# Altium integrated library Capacitor - Aluminium TH.IntLib: 4591 symbols (part 61 of 68)
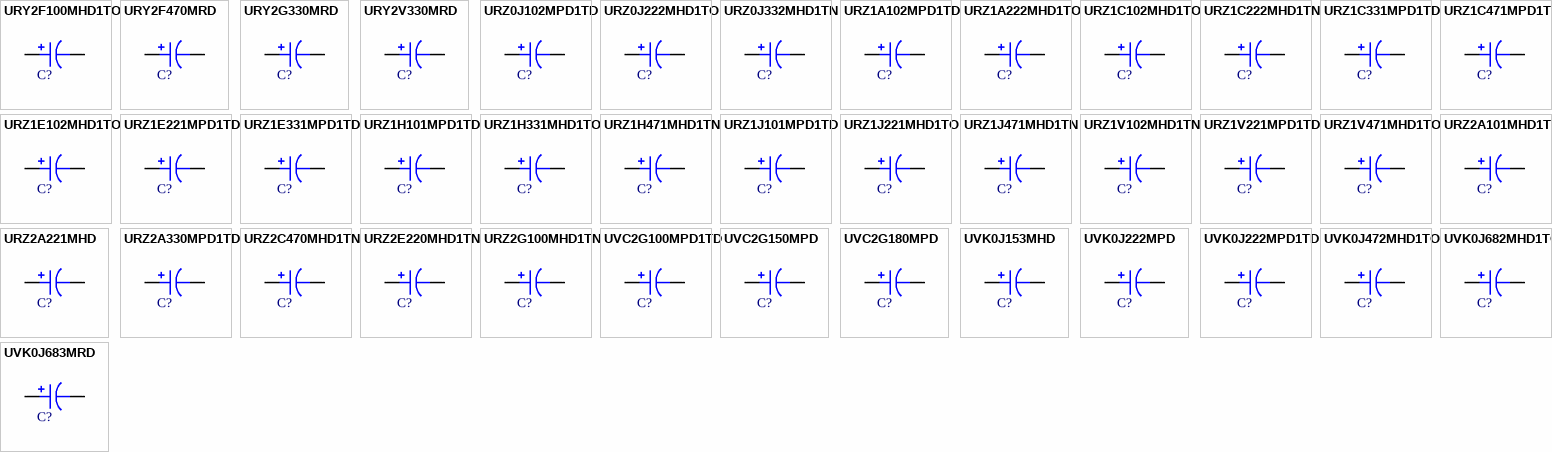
[diagram p174: symbols URY2F100MHD1TO to UVK0J683MRD]

## URZ1J101MPD1TD
designator C?, comment 100uF  (value not drawn)
CAP ALUM 100UF 20% 63V RADIAL; Part Number: URZ1J101MPD1TD; Manufacturer: Nichicon; TemperatureRange: -55C ~ 105C; Type: Polar; Ripple Current: 215mA @ 120Hz; Value: 100uF; PartId: 24445; Supplier 1: Digi-Key; Supplier Part Number 1: 493-11929-3-ND; ComponentLink1Description: Datasheet; ComponentLink1URL: http://nichicon-us.com/english/products/pdfs/e-urz.pdf; ComponentLink2Description: Digi-Key Listing; ComponentLink2URL: https://www.digikey.com/product-detail/en/nichicon/URZ1J101MPD1TD/493-11929-3-ND/4321072; Tolerance: 20%; Voltage: 63V; Price: 0.2068; Device Package: Radial, Can, 10mm
footprint CAP AL TH D10 L5 H12.5
pins: 1, 2

## URZ1J221MHD1TO
designator C?, comment 220uF  (value not drawn)
CAP ALUM 220UF 20% 63V RADIAL; Part Number: URZ1J221MHD1TO; Manufacturer: Nichicon; TemperatureRange: -55C ~ 105C; Type: Polar; Ripple Current: 335mA @ 120Hz; Value: 220uF; PartId: 22690; Supplier 1: Digi-Key; Supplier Part Number 1: 493-12084-1-ND; ComponentLink1Description: Datasheet; ComponentLink1URL: http://nichicon-us.com/english/products/pdfs/e-urz.pdf; ComponentLink2Description: Digi-Key Listing; ComponentLink2URL: https://www.digikey.com/product-detail/en/nichicon/URZ1J221MHD1TO/493-12084-1-ND/4320404; Tolerance: 20%; Voltage: 63V; Price: 0; Device Package: Radial, Can, 12.5mm
footprint CAP AL TH D12.5 L5 H14
pins: 1, 2

## URZ1J471MHD1TN
designator C?, comment 470uF  (value not drawn)
CAP ALUM 470UF 20% 63V RADIAL; Part Number: URZ1J471MHD1TN; Manufacturer: Nichicon; TemperatureRange: -55C ~ 105C; Type: Polar; Ripple Current: 640mA @ 120Hz; Value: 470uF; PartId: 26256; Supplier 1: Digi-Key; Supplier Part Number 1: 493-12282-3-ND; ComponentLink1Description: Datasheet; ComponentLink1URL: http://nichicon-us.com/english/products/pdfs/e-urz.pdf; ComponentLink2Description: Digi-Key Listing; ComponentLink2URL: https://www.digikey.com/product-detail/en/nichicon/URZ1J471MHD1TN/493-12282-3-ND/4321425; Tolerance: 20%; Voltage: 63V; Price: 0.6602; Device Package: Radial, Can, 16mm
footprint CAP AL TH D16 L7.5 H16.5
pins: 1, 2

## URZ1V102MHD1TN
designator C?, comment 1000uF  (value not drawn)
CAP ALUM 1000UF 20% 35V RADIAL; Part Number: URZ1V102MHD1TN; Manufacturer: Nichicon; TemperatureRange: -55C ~ 105C; Type: Polar; Ripple Current: 720mA @ 120Hz; Value: 1000uF; PartId: 26249; Supplier 1: Digi-Key; Supplier Part Number 1: 493-12172-3-ND; ComponentLink1Description: Datasheet; ComponentLink1URL: http://nichicon-us.com/english/products/pdfs/e-urz.pdf; ComponentLink2Description: Digi-Key Listing; ComponentLink2URL: https://www.digikey.com/product-detail/en/nichicon/URZ1V102MHD1TN/493-12172-3-ND/4321315; Tolerance: 20%; Voltage: 35V; Price: 0.5132; Device Package: Radial, Can, 16mm
footprint CAP AL TH D16 L7.5 H16.5
pins: 1, 2

## URZ1V221MPD1TD
designator C?, comment 220uF  (value not drawn)
CAP ALUM 220UF 20% 35V RADIAL; Part Number: URZ1V221MPD1TD; Manufacturer: Nichicon; TemperatureRange: -55C ~ 105C; Type: Polar; Ripple Current: 235mA @ 120Hz; Value: 220uF; PartId: 24444; Supplier 1: Digi-Key; Supplier Part Number 1: 493-11923-3-ND; ComponentLink1Description: Datasheet; ComponentLink1URL: http://nichicon-us.com/english/products/pdfs/e-urz.pdf; ComponentLink2Description: Digi-Key Listing; ComponentLink2URL: https://www.digikey.com/product-detail/en/nichicon/URZ1V221MPD1TD/493-11923-3-ND/4321066; Tolerance: 20%; Voltage: 35V; Price: 0.2042; Device Package: Radial, Can, 10mm
footprint CAP AL TH D10 L5 H12.5
pins: 1, 2

## URZ1V471MHD1TO
designator C?, comment 470uF  (value not drawn)
CAP ALUM 470UF 20% 35V RADIAL; Part Number: URZ1V471MHD1TO; Manufacturer: Nichicon; TemperatureRange: -55C ~ 105C; Type: Polar; Ripple Current: 420mA @ 120Hz; Value: 470uF; PartId: 22685; Supplier 1: Digi-Key; Supplier Part Number 1: 493-12005-1-ND; ComponentLink1Description: Datasheet; ComponentLink1URL: http://nichicon-us.com/english/products/pdfs/e-urz.pdf; ComponentLink2Description: Digi-Key Listing; ComponentLink2URL: https://www.digikey.com/product-detail/en/nichicon/URZ1V471MHD1TO/493-12005-1-ND/4320418; Tolerance: 20%; Voltage: 35V; Price: 0; Device Package: Radial, Can, 12.5mm
footprint CAP AL TH D12.5 L5 H14
pins: 1, 2

## URZ2A101MHD1TO
designator C?, comment 100uF  (value not drawn)
CAP ALUM 100UF 20% 100V RADIAL; Part Number: URZ2A101MHD1TO; Manufacturer: Nichicon; TemperatureRange: -55C ~ 105C; Type: Polar; Ripple Current: 265mA @ 120Hz; Value: 100uF; PartId: 22763; Supplier 1: Digi-Key; Supplier Part Number 1: 493-12157-1-ND; ComponentLink1Description: Datasheet; ComponentLink1URL: http://nichicon-us.com/english/products/pdfs/e-urz.pdf; ComponentLink2Description: Digi-Key Listing; ComponentLink2URL: https://www.digikey.com/product-detail/en/nichicon/URZ2A101MHD1TO/493-12157-1-ND/4320423; Tolerance: 20%; Voltage: 100V; Price: 0; Device Package: Radial, Can, 12.5mm
footprint CAP AL TH D12.5 L5 H16.5
pins: 1, 2

## URZ2A221MHD
designator C?, comment 220uF  (value not drawn)
CAP ALUM 220UF 20% 100V RADIAL; Part Number: URZ2A221MHD; Manufacturer: Nichicon; TemperatureRange: -55C ~ 105C; Type: Polar; Ripple Current: 440mA @ 120Hz; Value: 220uF; PartId: 26258; Supplier 1: Digi-Key; Supplier Part Number 1: 493-14509-ND; ComponentLink1Description: Datasheet; ComponentLink1URL: http://nichicon-us.com/english/products/pdfs/e-urz.pdf; ComponentLink2Description: Digi-Key Listing; ComponentLink2URL: https://www.digikey.com/product-detail/en/nichicon/URZ2A221MHD/493-14509-ND/2539005; Tolerance: 20%; Voltage: 100V; Price: 0.94; Device Package: Radial, Can, 16mm
footprint CAP AL TH D16 L7.5 H16.5
pins: 1, 2

## URZ2A330MPD1TD
designator C?, comment 33uF  (value not drawn)
CAP ALUM 33UF 20% 100V RADIAL; Part Number: URZ2A330MPD1TD; Manufacturer: Nichicon; TemperatureRange: -55C ~ 105C; Type: Polar; Ripple Current: 130mA @ 120Hz; Value: 33uF; PartId: 24443; Supplier 1: Digi-Key; Supplier Part Number 1: 493-11917-3-ND; ComponentLink1Description: Datasheet; ComponentLink1URL: http://nichicon-us.com/english/products/pdfs/e-urz.pdf; ComponentLink2Description: Digi-Key Listing; ComponentLink2URL: https://www.digikey.com/product-detail/en/nichicon/URZ2A330MPD1TD/493-11917-3-ND/4321060; Tolerance: 20%; Voltage: 100V; Price: 0.2014; Device Package: Radial, Can, 10mm
footprint CAP AL TH D10 L5 H12.5
pins: 1, 2

## URZ2C470MHD1TN
designator C?, comment 47uF  (value not drawn)
CAP ALUM 47UF 20% 160V RADIAL; Part Number: URZ2C470MHD1TN; Manufacturer: Nichicon; TemperatureRange: -40C ~ 105C; Type: Polar; Ripple Current: 300mA @ 120Hz; Value: 47uF; PartId: 26247; Supplier 1: Digi-Key; Supplier Part Number 1: 493-12184-3-ND; ComponentLink1Description: Datasheet; ComponentLink1URL: http://nichicon-us.com/english/products/pdfs/e-urz.pdf; ComponentLink2Description: Digi-Key Listing; ComponentLink2URL: https://www.digikey.com/product-detail/en/nichicon/URZ2C470MHD1TN/493-12184-3-ND/4321327; Tolerance: 20%; Voltage: 160V; Price: 0.5086; Device Package: Radial, Can, 16mm
footprint CAP AL TH D16 L7.5 H16.5
pins: 1, 2

## URZ2E220MHD1TN
designator C?, comment 22uF  (value not drawn)
CAP ALUM 22UF 20% 250V RADIAL; Part Number: URZ2E220MHD1TN; Manufacturer: Nichicon; TemperatureRange: -40C ~ 105C; Type: Polar; Ripple Current: 200mA @ 120Hz; Value: 22uF; PartId: 26240; Supplier 1: Digi-Key; Supplier Part Number 1: 493-12137-3-ND; ComponentLink1Description: Datasheet; ComponentLink1URL: http://nichicon-us.com/english/products/pdfs/e-urz.pdf; ComponentLink2Description: Digi-Key Listing; ComponentLink2URL: https://www.digikey.com/product-detail/en/nichicon/URZ2E220MHD1TN/493-12137-3-ND/4321280; Tolerance: 20%; Voltage: 250V; Price: 0.459; Device Package: Radial, Can, 16mm
footprint CAP AL TH D16 L7.5 H16.5
pins: 1, 2

## URZ2G100MHD1TN
designator C?, comment 10uF  (value not drawn)
CAP ALUM 10UF 20% 400V RADIAL; Part Number: URZ2G100MHD1TN; Manufacturer: Nichicon; TemperatureRange: -40C ~ 105C; Type: Polar; Ripple Current: 100mA @ 120Hz; Value: 10uF; PartId: 26251; Supplier 1: Digi-Key; Supplier Part Number 1: 493-12199-3-ND; ComponentLink1Description: Datasheet; ComponentLink1URL: http://nichicon-us.com/english/products/pdfs/e-urz.pdf; ComponentLink2Description: Digi-Key Listing; ComponentLink2URL: https://www.digikey.com/product-detail/en/nichicon/URZ2G100MHD1TN/493-12199-3-ND/4321342; Tolerance: 20%; Voltage: 400V; Price: 0.524; Device Package: Radial, Can, 16mm
footprint CAP AL TH D16 L7.5 H16.5
pins: 1, 2

## UVC2G100MPD1TD
designator C?, comment 10uF  (value not drawn)
CAP ALUM 10UF 20% 400V RADIAL; Part Number: UVC2G100MPD1TD; Manufacturer: Nichicon; TemperatureRange: -40C ~ 105C; Type: Polar; Ripple Current: 100mA; Value: 10uF; PartId: 24679; Supplier 1: Digi-Key; Supplier Part Number 1: 493-10416-3-ND; ComponentLink1Description: Datasheet; ComponentLink1URL: http://nichicon-us.com/english/products/pdfs/e-uvc.pdf; ComponentLink2Description: Digi-Key Listing; ComponentLink2URL: https://www.digikey.com/product-detail/en/nichicon/UVC2G100MPD1TD/493-10416-3-ND/4312415; Tolerance: 20%; Voltage: 400V; Price: 0.3216; Device Package: Radial, Can, 10mm
footprint CAP AL TH D10 L5 H14.5
pins: 1, 2

## UVC2G150MPD
designator C?, comment 15uF  (value not drawn)
CAP ALUM 15UF 20% 400V RADIAL; Part Number: UVC2G150MPD; Manufacturer: Nichicon; TemperatureRange: -40C ~ 105C; Type: Polar; Ripple Current: 150mA; Value: 15uF; PartId: 25699; Supplier 1: Digi-Key; Supplier Part Number 1: 493-6679-ND; ComponentLink1Description: Datasheet; ComponentLink1URL: http://nichicon-us.com/english/products/pdfs/e-uvc.pdf; ComponentLink2Description: Digi-Key Listing; ComponentLink2URL: https://www.digikey.com/product-detail/en/nichicon/UVC2G150MPD/493-6679-ND/3664224; Tolerance: 20%; Voltage: 400V; Price: 0.86; Device Package: Radial, Can, 10mm
footprint CAP AL TH D10 L5 H22
pins: 1, 2

## UVC2G180MPD
designator C?, comment 18uF  (value not drawn)
CAP ALUM 18UF 20% 400V RADIAL; Part Number: UVC2G180MPD; Manufacturer: Nichicon; TemperatureRange: -40C ~ 105C; Type: Polar; Ripple Current: 200mA; Value: 18uF; PartId: 25991; Supplier 1: Digi-Key; Supplier Part Number 1: 493-6680-ND; ComponentLink1Description: Datasheet; ComponentLink1URL: http://nichicon-us.com/english/products/pdfs/e-uvc.pdf; ComponentLink2Description: Digi-Key Listing; ComponentLink2URL: https://www.digikey.com/product-detail/en/nichicon/UVC2G180MPD/493-6680-ND/3664225; Tolerance: 20%; Voltage: 400V; Price: 1.03; Device Package: Radial, Can, 10mm
footprint CAP AL TH D10 L5 H22
pins: 1, 2

## UVK0J153MHD
designator C?, comment 15000uF  (value not drawn)
CAP ALUM 15000UF 20% 6.3V RADIAL; Part Number: UVK0J153MHD; Manufacturer: Nichicon; TemperatureRange: -40C ~ 85C; Type: Polar; Ripple Current: 2.55A; Value: 15000uF; PartId: 27138; Supplier 1: Digi-Key; Supplier Part Number 1: 493-12390-ND; ComponentLink1Description: Datasheet; ComponentLink1URL: http://nichicon-us.com/english/products/pdfs/e-uvk.pdf; ComponentLink2Description: Digi-Key Listing; ComponentLink2URL: https://www.digikey.com/product-detail/en/nichicon/UVK0J153MHD/493-12390-ND/2539355; Tolerance: 20%; Voltage: 6.3V; Price: 1.79; Device Package: Radial, Can, 16mm
footprint CAP AL TH D16 L7.5 H33.5
pins: 1, 2

## UVK0J222MPD
designator C?, comment 2200uF  (value not drawn)
CAP ALUM 2200UF 20% 6.3V RADIAL; Part Number: UVK0J222MPD; Manufacturer: Nichicon; TemperatureRange: -40C ~ 85C; Type: Polar; Ripple Current: 890mA; Value: 2200uF; PartId: 25231; Supplier 1: Digi-Key; Supplier Part Number 1: 493-6058-ND; ComponentLink1Description: Datasheet; ComponentLink1URL: http://nichicon-us.com/english/products/pdfs/e-uvk.pdf; ComponentLink2Description: Digi-Key Listing; ComponentLink2URL: https://www.digikey.com/product-detail/en/nichicon/UVK0J222MPD/493-6058-ND/2539356; Tolerance: 20%; Voltage: 6.3V; Price: 0.55; Device Package: Radial, Can, 10mm
footprint CAP AL TH D10 L5 H17.5
pins: 1, 2

## UVK0J222MPD1TD
designator C?, comment 2200uF  (value not drawn)
CAP ALUM 2200UF 20% 6.3V RADIAL; Part Number: UVK0J222MPD1TD; Manufacturer: Nichicon; TemperatureRange: -40C ~ 85C; Type: Polar; Ripple Current: 890mA; Value: 2200uF; PartId: 25042; Supplier 1: Digi-Key; Supplier Part Number 1: 493-5889-3-ND; ComponentLink1Description: Datasheet; ComponentLink1URL: http://nichicon-us.com/english/products/pdfs/e-uvk.pdf; ComponentLink2Description: Digi-Key Listing; ComponentLink2URL: https://www.digikey.com/product-detail/en/nichicon/UVK0J222MPD1TD/493-5889-3-ND/3438522; Tolerance: 20%; Voltage: 6.3V; Price: 0.1884; Device Package: Radial, Can, 10mm
footprint CAP AL TH D10 L5 H17.5
pins: 1, 2

## UVK0J472MHD1TO
designator C?, comment 4700uF  (value not drawn)
CAP ALUM 4700UF 20% 6.3V RADIAL; Part Number: UVK0J472MHD1TO; Manufacturer: Nichicon; TemperatureRange: -40C ~ 85C; Type: Polar; Ripple Current: 1.55A; Value: 4700uF; PartId: 23292; Supplier 1: Digi-Key; Supplier Part Number 1: 493-12544-1-ND; ComponentLink1Description: Datasheet; ComponentLink1URL: http://nichicon-us.com/english/products/pdfs/e-uvk.pdf; ComponentLink2Description: Digi-Key Listing; ComponentLink2URL: https://www.digikey.com/product-detail/en/nichicon/UVK0J472MHD1TO/493-12544-1-ND/4328625; Tolerance: 20%; Voltage: 6.3V; Price: 0.79; Device Package: Radial, Can, 12.5mm
footprint CAP AL TH D12.5 L5 H22
pins: 1, 2

## UVK0J682MHD1TO
designator C?, comment 6800uF  (value not drawn)
CAP ALUM 6800UF 20% 6.3V RADIAL; Part Number: UVK0J682MHD1TO; Manufacturer: Nichicon; TemperatureRange: -40C ~ 85C; Type: Polar; Ripple Current: 1.92A; Value: 6800uF; PartId: 24138; Supplier 1: Digi-Key; Supplier Part Number 1: 493-12545-1-ND; ComponentLink1Description: Datasheet; ComponentLink1URL: http://nichicon-us.com/english/products/pdfs/e-uvk.pdf; ComponentLink2Description: Digi-Key Listing; ComponentLink2URL: https://www.digikey.com/product-detail/en/nichicon/UVK0J682MHD1TO/493-12545-1-ND/4328626; Tolerance: 20%; Voltage: 6.3V; Price: 1.46; Device Package: Radial, Can, 12.5mm
footprint CAP AL TH D12.5 L5 H27
pins: 1, 2

## UVK0J683MRD
designator C?, comment 68000uF  (value not drawn)
CAP ALUM 68000UF 20% 6.3V RADIAL; Part Number: UVK0J683MRD; Manufacturer: Nichicon; TemperatureRange: -40C ~ 85C; Type: Polar; Ripple Current: 4.3A; Value: 68000uF; PartId: 27552; Supplier 1: Digi-Key; Supplier Part Number 1: 493-12394-ND; ComponentLink1Description: Datasheet; ComponentLink1URL: http://nichicon-us.com/english/products/pdfs/e-uvk.pdf; ComponentLink2Description: Digi-Key Listing; ComponentLink2URL: https://www.digikey.com/product-detail/en/nichicon/UVK0J683MRD/493-12394-ND/2539363; Tolerance: 20%; Voltage: 6.3V; Price: 4.62; Device Package: Radial, Can, 25mm
footprint CAP AL TH D25 L12.5 H52
pins: 1, 2

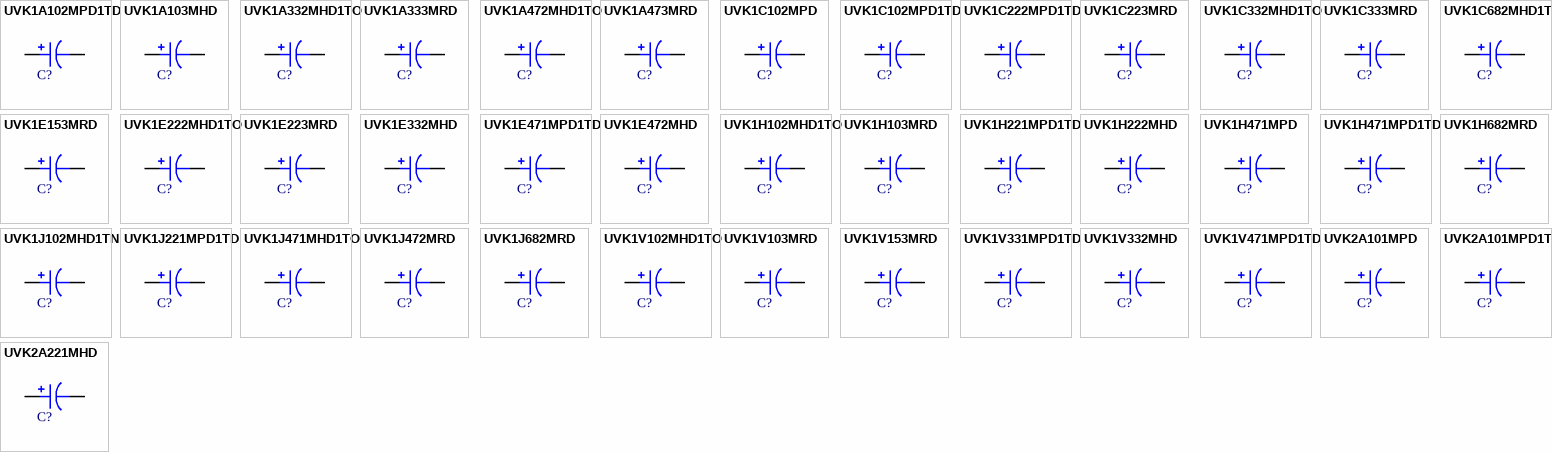
[diagram p102: symbols UVK1A102MPD1TD to UVK2A221MHD]

## UVK1A102MPD1TD
designator C?, comment 1000uF  (value not drawn)
CAP ALUM 1000UF 20% 10V RADIAL; Part Number: UVK1A102MPD1TD; Manufacturer: Nichicon; TemperatureRange: -40C ~ 85C; Type: Polar; Ripple Current: 650mA; Value: 1000uF; PartId: 24541; Supplier 1: Digi-Key; Supplier Part Number 1: 493-12546-3-ND; ComponentLink1Description: Datasheet; ComponentLink1URL: http://nichicon-us.com/english/products/pdfs/e-uvk.pdf; ComponentLink2Description: Digi-Key Listing; ComponentLink2URL: https://www.digikey.com/product-detail/en/nichicon/UVK1A102MPD1TD/493-12546-3-ND/4328747; Tolerance: 20%; Voltage: 10V; Price: 0.1473; Device Package: Radial, Can, 10mm
footprint CAP AL TH D10 L5 H14.5
pins: 1, 2

## UVK1A103MHD
designator C?, comment 10000uF  (value not drawn)
CAP ALUM 10000UF 20% 10V RADIAL; Part Number: UVK1A103MHD; Manufacturer: Nichicon; TemperatureRange: -40C ~ 85C; Type: Polar; Ripple Current: 2.55A; Value: 10000uF; PartId: 27135; Supplier 1: Digi-Key; Supplier Part Number 1: 493-12395-ND; ComponentLink1Description: Datasheet; ComponentLink1URL: http://nichicon-us.com/english/products/pdfs/e-uvk.pdf; ComponentLink2Description: Digi-Key Listing; ComponentLink2URL: https://www.digikey.com/product-detail/en/nichicon/UVK1A103MHD/493-12395-ND/2539365; Tolerance: 20%; Voltage: 10V; Price: 1.79; Device Package: Radial, Can, 16mm
footprint CAP AL TH D16 L7.5 H33.5
pins: 1, 2

## UVK1A332MHD1TO
designator C?, comment 3300uF  (value not drawn)
CAP ALUM 3300UF 20% 10V RADIAL; Part Number: UVK1A332MHD1TO; Manufacturer: Nichicon; TemperatureRange: -40C ~ 85C; Type: Polar; Ripple Current: 1.45A; Value: 3300uF; PartId: 23306; Supplier 1: Digi-Key; Supplier Part Number 1: 493-12549-1-ND; ComponentLink1Description: Datasheet; ComponentLink1URL: http://nichicon-us.com/english/products/pdfs/e-uvk.pdf; ComponentLink2Description: Digi-Key Listing; ComponentLink2URL: https://www.digikey.com/product-detail/en/nichicon/UVK1A332MHD1TO/493-12549-1-ND/4328630; Tolerance: 20%; Voltage: 10V; Price: 0.81; Device Package: Radial, Can, 12.5mm
footprint CAP AL TH D12.5 L5 H22
pins: 1, 2

## UVK1A333MRD
designator C?, comment 33000uF  (value not drawn)
CAP ALUM 33000UF 20% 10V RADIAL; Part Number: UVK1A333MRD; Manufacturer: Nichicon; TemperatureRange: -40C ~ 85C; Type: Polar; Ripple Current: 4.5A; Value: 33000uF; PartId: 27643; Supplier 1: Digi-Key; Supplier Part Number 1: 493-12398-ND; ComponentLink1Description: Datasheet; ComponentLink1URL: http://nichicon-us.com/english/products/pdfs/e-uvk.pdf; ComponentLink2Description: Digi-Key Listing; ComponentLink2URL: https://www.digikey.com/product-detail/en/nichicon/UVK1A333MRD/493-12398-ND/2539372; Tolerance: 20%; Voltage: 10V; Price: 4.13; Device Package: Radial, Can, 22mm
footprint CAP AL TH D22 L10 H53
pins: 1, 2

## UVK1A472MHD1TO
designator C?, comment 4700uF  (value not drawn)
CAP ALUM 4700UF 20% 10V RADIAL; Part Number: UVK1A472MHD1TO; Manufacturer: Nichicon; TemperatureRange: -40C ~ 85C; Type: Polar; Ripple Current: 1.8A; Value: 4700uF; PartId: 24094; Supplier 1: Digi-Key; Supplier Part Number 1: 493-12551-1-ND; ComponentLink1Description: Datasheet; ComponentLink1URL: http://nichicon-us.com/english/products/pdfs/e-uvk.pdf; ComponentLink2Description: Digi-Key Listing; ComponentLink2URL: https://www.digikey.com/product-detail/en/nichicon/UVK1A472MHD1TO/493-12551-1-ND/4328632; Tolerance: 20%; Voltage: 10V; Price: 1.28; Device Package: Radial, Can, 12.5mm
footprint CAP AL TH D12.5 L5 H27
pins: 1, 2

## UVK1A473MRD
designator C?, comment 47000uF  (value not drawn)
CAP ALUM 47000UF 20% 10V RADIAL; Part Number: UVK1A473MRD; Manufacturer: Nichicon; TemperatureRange: -40C ~ 85C; Type: Polar; Ripple Current: 5A; Value: 47000uF; PartId: 27543; Supplier 1: Digi-Key; Supplier Part Number 1: 493-12399-ND; ComponentLink1Description: Datasheet; ComponentLink1URL: http://nichicon-us.com/english/products/pdfs/e-uvk.pdf; ComponentLink2Description: Digi-Key Listing; ComponentLink2URL: https://www.digikey.com/product-detail/en/nichicon/UVK1A473MRD/493-12399-ND/2539375; Tolerance: 20%; Voltage: 10V; Price: 4.14; Device Package: Radial, Can, 25mm
footprint CAP AL TH D25 L12.5 H52
pins: 1, 2

## UVK1C102MPD
designator C?, comment 1000uF  (value not drawn)
CAP ALUM 1000UF 20% 16V RADIAL; Part Number: UVK1C102MPD; Manufacturer: Nichicon; TemperatureRange: -40C ~ 85C; Type: Polar; Ripple Current: 700mA; Value: 1000uF; PartId: 24903; Supplier 1: Digi-Key; Supplier Part Number 1: 493-13408-ND; ComponentLink1Description: Datasheet; ComponentLink1URL: http://nichicon-us.com/english/products/pdfs/e-uvk.pdf; ComponentLink2Description: Digi-Key Listing; ComponentLink2URL: https://www.digikey.com/product-detail/en/nichicon/UVK1C102MPD/493-13408-ND/2539377; Tolerance: 20%; Voltage: 16V; Price: 0.49; Device Package: Radial, Can, 10mm
footprint CAP AL TH D10 L5 H14.5
pins: 1, 2

## UVK1C102MPD1TD
designator C?, comment 1000uF  (value not drawn)
CAP ALUM 1000UF 20% 16V RADIAL; Part Number: UVK1C102MPD1TD; Manufacturer: Nichicon; TemperatureRange: -40C ~ 85C; Type: Polar; Ripple Current: 700mA; Value: 1000uF; PartId: 24584; Supplier 1: Digi-Key; Supplier Part Number 1: 493-12553-3-ND; ComponentLink1Description: Datasheet; ComponentLink1URL: http://nichicon-us.com/english/products/pdfs/e-uvk.pdf; ComponentLink2Description: Digi-Key Listing; ComponentLink2URL: https://www.digikey.com/product-detail/en/nichicon/UVK1C102MPD1TD/493-12553-3-ND/4328754; Tolerance: 20%; Voltage: 16V; Price: 0.1682; Device Package: Radial, Can, 10mm
footprint CAP AL TH D10 L5 H14.5
pins: 1, 2

## UVK1C222MPD1TD
designator C?, comment 2200uF  (value not drawn)
CAP ALUM 2200UF 20% 16V RADIAL; Part Number: UVK1C222MPD1TD; Manufacturer: Nichicon; TemperatureRange: -40C ~ 85C; Type: Polar; Ripple Current: 1A; Value: 2200uF; PartId: 25783; Supplier 1: Digi-Key; Supplier Part Number 1: 493-12555-3-ND; ComponentLink1Description: Datasheet; ComponentLink1URL: http://nichicon-us.com/english/products/pdfs/e-uvk.pdf; ComponentLink2Description: Digi-Key Listing; ComponentLink2URL: https://www.digikey.com/product-detail/en/nichicon/UVK1C222MPD1TD/493-12555-3-ND/4328756; Tolerance: 20%; Voltage: 16V; Price: 0.254; Device Package: Radial, Can, 10mm
footprint CAP AL TH D10 L5 H22
pins: 1, 2

## UVK1C223MRD
designator C?, comment 22000uF  (value not drawn)
CAP ALUM 22000UF 20% 16V RADIAL; Part Number: UVK1C223MRD; Manufacturer: Nichicon; TemperatureRange: -40C ~ 85C; Type: Polar; Ripple Current: 3.8A; Value: 22000uF; PartId: 27577; Supplier 1: Digi-Key; Supplier Part Number 1: 493-12402-ND; ComponentLink1Description: Datasheet; ComponentLink1URL: http://nichicon-us.com/english/products/pdfs/e-uvk.pdf; ComponentLink2Description: Digi-Key Listing; ComponentLink2URL: https://www.digikey.com/product-detail/en/nichicon/UVK1C223MRD/493-12402-ND/2539382; Tolerance: 20%; Voltage: 16V; Price: 4.13; Device Package: Radial, Can, 22mm
footprint CAP AL TH D22 L10 H43
pins: 1, 2

## UVK1C332MHD1TO
designator C?, comment 3300uF  (value not drawn)
CAP ALUM 3300UF 20% 16V RADIAL; Part Number: UVK1C332MHD1TO; Manufacturer: Nichicon; TemperatureRange: -40C ~ 85C; Type: Polar; Ripple Current: 1.7A; Value: 3300uF; PartId: 24119; Supplier 1: Digi-Key; Supplier Part Number 1: 493-12557-1-ND; ComponentLink1Description: Datasheet; ComponentLink1URL: http://nichicon-us.com/english/products/pdfs/e-uvk.pdf; ComponentLink2Description: Digi-Key Listing; ComponentLink2URL: https://www.digikey.com/product-detail/en/nichicon/UVK1C332MHD1TO/493-12557-1-ND/4328638; Tolerance: 20%; Voltage: 16V; Price: 1.4; Device Package: Radial, Can, 12.5mm
footprint CAP AL TH D12.5 L5 H27
pins: 1, 2

## UVK1C333MRD
designator C?, comment 33000uF  (value not drawn)
CAP ALUM 33000UF 20% 16V RADIAL; Part Number: UVK1C333MRD; Manufacturer: Nichicon; TemperatureRange: -40C ~ 85C; Type: Polar; Ripple Current: 4.8A; Value: 33000uF; PartId: 27534; Supplier 1: Digi-Key; Supplier Part Number 1: 493-12403-ND; ComponentLink1Description: Datasheet; ComponentLink1URL: http://nichicon-us.com/english/products/pdfs/e-uvk.pdf; ComponentLink2Description: Digi-Key Listing; ComponentLink2URL: https://www.digikey.com/product-detail/en/nichicon/UVK1C333MRD/493-12403-ND/2539385; Tolerance: 20%; Voltage: 16V; Price: 4.62; Device Package: Radial, Can, 25mm
footprint CAP AL TH D25 L12.5 H52
pins: 1, 2

## UVK1C682MHD1TN
designator C?, comment 6800uF  (value not drawn)
CAP ALUM 6800UF 20% 16V RADIAL; Part Number: UVK1C682MHD1TN; Manufacturer: Nichicon; TemperatureRange: -40C ~ 85C; Type: Polar; Ripple Current: 2.25A; Value: 6800uF; PartId: 26779; Supplier 1: Digi-Key; Supplier Part Number 1: 493-7456-2-ND; ComponentLink1Description: Datasheet; ComponentLink1URL: http://nichicon-us.com/english/products/pdfs/e-uvk.pdf; ComponentLink2Description: Digi-Key Listing; ComponentLink2URL: https://www.digikey.com/product-detail/en/nichicon/UVK1C682MHD1TN/493-7456-2-ND/3768854; Tolerance: 20%; Voltage: 16V; Price: 0.641; Device Package: Radial, Can, 16mm
footprint CAP AL TH D16 L7.5 H27
pins: 1, 2

## UVK1E153MRD
designator C?, comment 15000uF  (value not drawn)
CAP ALUM 15000UF 20% 25V RADIAL; Part Number: UVK1E153MRD; Manufacturer: Nichicon; TemperatureRange: -40C ~ 85C; Type: Polar; Ripple Current: 3.8A; Value: 15000uF; PartId: 27642; Supplier 1: Digi-Key; Supplier Part Number 1: 493-12404-ND; ComponentLink1Description: Datasheet; ComponentLink1URL: http://nichicon-us.com/english/products/pdfs/e-uvk.pdf; ComponentLink2Description: Digi-Key Listing; ComponentLink2URL: https://www.digikey.com/product-detail/en/nichicon/UVK1E153MRD/493-12404-ND/2539391; Tolerance: 20%; Voltage: 25V; Price: 4.13; Device Package: Radial, Can, 22mm
footprint CAP AL TH D22 L10 H53
pins: 1, 2

## UVK1E222MHD1TO
designator C?, comment 2200uF  (value not drawn)
CAP ALUM 2200UF 20% 25V RADIAL; Part Number: UVK1E222MHD1TO; Manufacturer: Nichicon; TemperatureRange: -40C ~ 85C; Type: Polar; Ripple Current: 1.55A; Value: 2200uF; PartId: 23845; Supplier 1: Digi-Key; Supplier Part Number 1: 493-12563-3-ND; ComponentLink1Description: Datasheet; ComponentLink1URL: http://nichicon-us.com/english/products/pdfs/e-uvk.pdf; ComponentLink2Description: Digi-Key Listing; ComponentLink2URL: https://www.digikey.com/product-detail/en/nichicon/UVK1E222MHD1TO/493-12563-3-ND/4328764; Tolerance: 20%; Voltage: 25V; Price: 0.5577; Device Package: Radial, Can, 12.5mm
footprint CAP AL TH D12.5 L5 H27
pins: 1, 2

## UVK1E223MRD
designator C?, comment 22000uF  (value not drawn)
CAP ALUM 22000UF 20% 25V RADIAL; Part Number: UVK1E223MRD; Manufacturer: Nichicon; TemperatureRange: -40C ~ 85C; Type: Polar; Ripple Current: 4.5A; Value: 22000uF; PartId: 27532; Supplier 1: Digi-Key; Supplier Part Number 1: 493-12405-ND; ComponentLink1Description: Datasheet; ComponentLink1URL: http://nichicon-us.com/english/products/pdfs/e-uvk.pdf; ComponentLink2Description: Digi-Key Listing; ComponentLink2URL: https://www.digikey.com/product-detail/en/nichicon/UVK1E223MRD/493-12405-ND/2539394; Tolerance: 20%; Voltage: 25V; Price: 4.62; Device Package: Radial, Can, 25mm
footprint CAP AL TH D25 L12.5 H52
pins: 1, 2

## UVK1E332MHD
designator C?, comment 3300uF  (value not drawn)
CAP ALUM 3300UF 20% 25V RADIAL; Part Number: UVK1E332MHD; Manufacturer: Nichicon; TemperatureRange: -40C ~ 85C; Type: Polar; Ripple Current: 1.98A; Value: 3300uF; PartId: 26831; Supplier 1: Digi-Key; Supplier Part Number 1: 493-6060-ND; ComponentLink1Description: Datasheet; ComponentLink1URL: http://nichicon-us.com/english/products/pdfs/e-uvk.pdf; ComponentLink2Description: Digi-Key Listing; ComponentLink2URL: https://www.digikey.com/product-detail/en/nichicon/UVK1E332MHD/493-6060-ND/2539396; Tolerance: 20%; Voltage: 25V; Price: 0.98; Device Package: Radial, Can, 16mm
footprint CAP AL TH D16 L7.5 H27
pins: 1, 2

## UVK1E471MPD1TD
designator C?, comment 470uF  (value not drawn)
CAP ALUM 470UF 20% 25V RADIAL; Part Number: UVK1E471MPD1TD; Manufacturer: Nichicon; TemperatureRange: -40C ~ 85C; Type: Polar; Ripple Current: 550mA; Value: 470uF; PartId: 24557; Supplier 1: Digi-Key; Supplier Part Number 1: 493-12565-3-ND; ComponentLink1Description: Datasheet; ComponentLink1URL: http://nichicon-us.com/english/products/pdfs/e-uvk.pdf; ComponentLink2Description: Digi-Key Listing; ComponentLink2URL: https://www.digikey.com/product-detail/en/nichicon/UVK1E471MPD1TD/493-12565-3-ND/4328766; Tolerance: 20%; Voltage: 25V; Price: 0.1518; Device Package: Radial, Can, 10mm
footprint CAP AL TH D10 L5 H14.5
pins: 1, 2

## UVK1E472MHD
designator C?, comment 4700uF  (value not drawn)
CAP ALUM 4700UF 20% 25V RADIAL; Part Number: UVK1E472MHD; Manufacturer: Nichicon; TemperatureRange: -40C ~ 85C; Type: Polar; Ripple Current: 2.2A; Value: 4700uF; PartId: 26879; Supplier 1: Digi-Key; Supplier Part Number 1: 493-16219-ND; ComponentLink1Description: Datasheet; ComponentLink1URL: http://nichicon-us.com/english/products/pdfs/e-uvk.pdf; ComponentLink2Description: Digi-Key Listing; ComponentLink2URL: https://www.digikey.com/product-detail/en/nichicon/UVK1E472MHD/493-16219-ND/2539398; Tolerance: 20%; Voltage: 25V; Price: 1.3; Device Package: Radial, Can, 16mm
footprint CAP AL TH D16 L7.5 H27
pins: 1, 2

## UVK1H102MHD1TO
designator C?, comment 1000uF  (value not drawn)
CAP ALUM 1000UF 20% 50V RADIAL; Part Number: UVK1H102MHD1TO; Manufacturer: Nichicon; TemperatureRange: -40C ~ 85C; Type: Polar; Ripple Current: 1.35A; Value: 1000uF; PartId: 23831; Supplier 1: Digi-Key; Supplier Part Number 1: 493-12571-3-ND; ComponentLink1Description: Datasheet; ComponentLink1URL: http://nichicon-us.com/english/products/pdfs/e-uvk.pdf; ComponentLink2Description: Digi-Key Listing; ComponentLink2URL: https://www.digikey.com/product-detail/en/nichicon/UVK1H102MHD1TO/493-12571-3-ND/4328772; Tolerance: 20%; Voltage: 50V; Price: 0.4617; Device Package: Radial, Can, 12.5mm
footprint CAP AL TH D12.5 L5 H27
pins: 1, 2

## UVK1H103MRD
designator C?, comment 10000uF  (value not drawn)
CAP ALUM 10000UF 20% 50V RADIAL; Part Number: UVK1H103MRD; Manufacturer: Nichicon; TemperatureRange: -40C ~ 85C; Type: Polar; Ripple Current: 4A; Value: 10000uF; PartId: 27553; Supplier 1: Digi-Key; Supplier Part Number 1: 493-12407-ND; ComponentLink1Description: Datasheet; ComponentLink1URL: http://nichicon-us.com/english/products/pdfs/e-uvk.pdf; ComponentLink2Description: Digi-Key Listing; ComponentLink2URL: https://www.digikey.com/product-detail/en/nichicon/UVK1H103MRD/493-12407-ND/2539405; Tolerance: 20%; Voltage: 50V; Price: 4.62; Device Package: Radial, Can, 25mm
footprint CAP AL TH D25 L12.5 H52
pins: 1, 2

## UVK1H221MPD1TD
designator C?, comment 220uF  (value not drawn)
CAP ALUM 220UF 20% 50V RADIAL; Part Number: UVK1H221MPD1TD; Manufacturer: Nichicon; TemperatureRange: -40C ~ 85C; Type: Polar; Ripple Current: 430mA; Value: 220uF; PartId: 24532; Supplier 1: Digi-Key; Supplier Part Number 1: 493-12573-3-ND; ComponentLink1Description: Datasheet; ComponentLink1URL: http://nichicon-us.com/english/products/pdfs/e-uvk.pdf; ComponentLink2Description: Digi-Key Listing; ComponentLink2URL: https://www.digikey.com/product-detail/en/nichicon/UVK1H221MPD1TD/493-12573-3-ND/4328774; Tolerance: 20%; Voltage: 50V; Price: 0.1442; Device Package: Radial, Can, 10mm
footprint CAP AL TH D10 L5 H14.5
pins: 1, 2

## UVK1H222MHD
designator C?, comment 2200uF  (value not drawn)
CAP ALUM 2200UF 20% 50V RADIAL; Part Number: UVK1H222MHD; Manufacturer: Nichicon; TemperatureRange: -40C ~ 85C; Type: Polar; Ripple Current: 1.98A; Value: 2200uF; PartId: 27133; Supplier 1: Digi-Key; Supplier Part Number 1: 493-6061-ND; ComponentLink1Description: Datasheet; ComponentLink1URL: http://nichicon-us.com/english/products/pdfs/e-uvk.pdf; ComponentLink2Description: Digi-Key Listing; ComponentLink2URL: https://www.digikey.com/product-detail/en/nichicon/UVK1H222MHD/493-6061-ND/2539407; Tolerance: 20%; Voltage: 50V; Price: 1.79; Device Package: Radial, Can, 16mm
footprint CAP AL TH D16 L7.5 H33.5
pins: 1, 2

## UVK1H471MPD
designator C?, comment 470uF  (value not drawn)
CAP ALUM 470UF 20% 50V RADIAL; Part Number: UVK1H471MPD; Manufacturer: Nichicon; TemperatureRange: -40C ~ 85C; Type: Polar; Ripple Current: 760mA; Value: 470uF; PartId: 25927; Supplier 1: Digi-Key; Supplier Part Number 1: 493-6062-ND; ComponentLink1Description: Datasheet; ComponentLink1URL: http://nichicon-us.com/english/products/pdfs/e-uvk.pdf; ComponentLink2Description: Digi-Key Listing; ComponentLink2URL: https://www.digikey.com/product-detail/en/nichicon/UVK1H471MPD/493-6062-ND/2539414; Tolerance: 20%; Voltage: 50V; Price: 0.73; Device Package: Radial, Can, 10mm
footprint CAP AL TH D10 L5 H22
pins: 1, 2

## UVK1H471MPD1TD
designator C?, comment 470uF  (value not drawn)
CAP ALUM 470UF 20% 50V RADIAL; Part Number: UVK1H471MPD1TD; Manufacturer: Nichicon; TemperatureRange: -40C ~ 85C; Type: Polar; Ripple Current: 760mA; Value: 470uF; PartId: 25782; Supplier 1: Digi-Key; Supplier Part Number 1: 493-5892-3-ND; ComponentLink1Description: Datasheet; ComponentLink1URL: http://nichicon-us.com/english/products/pdfs/e-uvk.pdf; ComponentLink2Description: Digi-Key Listing; ComponentLink2URL: https://www.digikey.com/product-detail/en/nichicon/UVK1H471MPD1TD/493-5892-3-ND/3438525; Tolerance: 20%; Voltage: 50V; Price: 0.2504; Device Package: Radial, Can, 10mm
footprint CAP AL TH D10 L5 H22
pins: 1, 2

## UVK1H682MRD
designator C?, comment 6800uF  (value not drawn)
CAP ALUM 6800UF 20% 50V RADIAL; Part Number: UVK1H682MRD; Manufacturer: Nichicon; TemperatureRange: -40C ~ 85C; Type: Polar; Ripple Current: 3.5A; Value: 6800uF; PartId: 27657; Supplier 1: Digi-Key; Supplier Part Number 1: 493-12410-ND; ComponentLink1Description: Datasheet; ComponentLink1URL: http://nichicon-us.com/english/products/pdfs/e-uvk.pdf; ComponentLink2Description: Digi-Key Listing; ComponentLink2URL: https://www.digikey.com/product-detail/en/nichicon/UVK1H682MRD/493-12410-ND/2539417; Tolerance: 20%; Voltage: 50V; Price: 4.44; Device Package: Radial, Can, 22mm
footprint CAP AL TH D22 L10 H53
pins: 1, 2

## UVK1J102MHD1TN
designator C?, comment 1000uF  (value not drawn)
CAP ALUM 1000UF 20% 63V RADIAL; Part Number: UVK1J102MHD1TN; Manufacturer: Nichicon; TemperatureRange: -40C ~ 85C; Type: Polar; Ripple Current: 1.3A; Value: 1000uF; PartId: 26754; Supplier 1: Digi-Key; Supplier Part Number 1: 493-12585-3-ND; ComponentLink1Description: Datasheet; ComponentLink1URL: http://nichicon-us.com/english/products/pdfs/e-uvk.pdf; ComponentLink2Description: Digi-Key Listing; ComponentLink2URL: https://www.digikey.com/product-detail/en/nichicon/UVK1J102MHD1TN/493-12585-3-ND/4328786; Tolerance: 20%; Voltage: 63V; Price: 0.5642; Device Package: Radial, Can, 16mm
footprint CAP AL TH D16 L7.5 H27
pins: 1, 2

## UVK1J221MPD1TD
designator C?, comment 220uF  (value not drawn)
CAP ALUM 220UF 20% 63V RADIAL; Part Number: UVK1J221MPD1TD; Manufacturer: Nichicon; TemperatureRange: -40C ~ 85C; Type: Polar; Ripple Current: 490mA; Value: 220uF; PartId: 25022; Supplier 1: Digi-Key; Supplier Part Number 1: 493-12587-3-ND; ComponentLink1Description: Datasheet; ComponentLink1URL: http://nichicon-us.com/english/products/pdfs/e-uvk.pdf; ComponentLink2Description: Digi-Key Listing; ComponentLink2URL: https://www.digikey.com/product-detail/en/nichicon/UVK1J221MPD1TD/493-12587-3-ND/4328788; Tolerance: 20%; Voltage: 63V; Price: 0.1664; Device Package: Radial, Can, 10mm
footprint CAP AL TH D10 L5 H17.5
pins: 1, 2

## UVK1J471MHD1TO
designator C?, comment 470uF  (value not drawn)
CAP ALUM 470UF 20% 63V RADIAL; Part Number: UVK1J471MHD1TO; Manufacturer: Nichicon; TemperatureRange: -40C ~ 85C; Type: Polar; Ripple Current: 900mA; Value: 470uF; PartId: 23786; Supplier 1: Digi-Key; Supplier Part Number 1: 493-12591-3-ND; ComponentLink1Description: Datasheet; ComponentLink1URL: http://nichicon-us.com/english/products/pdfs/e-uvk.pdf; ComponentLink2Description: Digi-Key Listing; ComponentLink2URL: https://www.digikey.com/product-detail/en/nichicon/UVK1J471MHD1TO/493-12591-3-ND/4328792; Tolerance: 20%; Voltage: 63V; Price: 0.2876; Device Package: Radial, Can, 12.5mm
footprint CAP AL TH D12.5 L5 H27
pins: 1, 2

## UVK1J472MRD
designator C?, comment 4700uF  (value not drawn)
CAP ALUM 4700UF 20% 63V RADIAL; Part Number: UVK1J472MRD; Manufacturer: Nichicon; TemperatureRange: -40C ~ 85C; Type: Polar; Ripple Current: 3.4A; Value: 4700uF; PartId: 27673; Supplier 1: Digi-Key; Supplier Part Number 1: 493-12413-ND; ComponentLink1Description: Datasheet; ComponentLink1URL: http://nichicon-us.com/english/products/pdfs/e-uvk.pdf; ComponentLink2Description: Digi-Key Listing; ComponentLink2URL: https://www.digikey.com/product-detail/en/nichicon/UVK1J472MRD/493-12413-ND/2539431; Tolerance: 20%; Voltage: 63V; Price: 4.09; Device Package: Radial, Can, 22mm
footprint CAP AL TH D22 L10 H53
pins: 1, 2

## UVK1J682MRD
designator C?, comment 6800uF  (value not drawn)
CAP ALUM 6800UF 20% 63V RADIAL; Part Number: UVK1J682MRD; Manufacturer: Nichicon; TemperatureRange: -40C ~ 85C; Type: Polar; Ripple Current: 3.9A; Value: 6800uF; PartId: 27521; Supplier 1: Digi-Key; Supplier Part Number 1: 493-12414-ND; ComponentLink1Description: Datasheet; ComponentLink1URL: http://nichicon-us.com/english/products/pdfs/e-uvk.pdf; ComponentLink2Description: Digi-Key Listing; ComponentLink2URL: https://www.digikey.com/product-detail/en/nichicon/UVK1J682MRD/493-12414-ND/2539433; Tolerance: 20%; Voltage: 63V; Price: 4.69; Device Package: Radial, Can, 25mm
footprint CAP AL TH D25 L12.5 H52
pins: 1, 2

## UVK1V102MHD1TO
designator C?, comment 1000uF  (value not drawn)
CAP ALUM 1000UF 20% 35V RADIAL; Part Number: UVK1V102MHD1TO; Manufacturer: Nichicon; TemperatureRange: -40C ~ 85C; Type: Polar; Ripple Current: 1.15A; Value: 1000uF; PartId: 23134; Supplier 1: Digi-Key; Supplier Part Number 1: 493-12594-3-ND; ComponentLink1Description: Datasheet; ComponentLink1URL: http://nichicon-us.com/english/products/pdfs/e-uvk.pdf; ComponentLink2Description: Digi-Key Listing; ComponentLink2URL: https://www.digikey.com/product-detail/en/nichicon/UVK1V102MHD1TO/493-12594-3-ND/4328795; Tolerance: 20%; Voltage: 35V; Price: 0.2496; Device Package: Radial, Can, 12.5mm
footprint CAP AL TH D12.5 L5 H22
pins: 1, 2

## UVK1V103MRD
designator C?, comment 10000uF  (value not drawn)
CAP ALUM 10000UF 20% 35V RADIAL; Part Number: UVK1V103MRD; Manufacturer: Nichicon; TemperatureRange: -40C ~ 85C; Type: Polar; Ripple Current: 3.7A; Value: 10000uF; PartId: 27644; Supplier 1: Digi-Key; Supplier Part Number 1: 493-12415-ND; ComponentLink1Description: Datasheet; ComponentLink1URL: http://nichicon-us.com/english/products/pdfs/e-uvk.pdf; ComponentLink2Description: Digi-Key Listing; ComponentLink2URL: https://www.digikey.com/product-detail/en/nichicon/UVK1V103MRD/493-12415-ND/2539436; Tolerance: 20%; Voltage: 35V; Price: 4.13; Device Package: Radial, Can, 22mm
footprint CAP AL TH D22 L10 H53
pins: 1, 2

## UVK1V153MRD
designator C?, comment 15000uF  (value not drawn)
CAP ALUM 15000UF 20% 35V RADIAL; Part Number: UVK1V153MRD; Manufacturer: Nichicon; TemperatureRange: -40C ~ 85C; Type: Polar; Ripple Current: 4.3A; Value: 15000uF; PartId: 27533; Supplier 1: Digi-Key; Supplier Part Number 1: 493-12416-ND; ComponentLink1Description: Datasheet; ComponentLink1URL: http://nichicon-us.com/english/products/pdfs/e-uvk.pdf; ComponentLink2Description: Digi-Key Listing; ComponentLink2URL: https://www.digikey.com/product-detail/en/nichicon/UVK1V153MRD/493-12416-ND/2539437; Tolerance: 20%; Voltage: 35V; Price: 4.62; Device Package: Radial, Can, 25mm
footprint CAP AL TH D25 L12.5 H52
pins: 1, 2

## UVK1V331MPD1TD
designator C?, comment 330uF  (value not drawn)
CAP ALUM 330UF 20% 35V RADIAL; Part Number: UVK1V331MPD1TD; Manufacturer: Nichicon; TemperatureRange: -40C ~ 85C; Type: Polar; Ripple Current: 490mA; Value: 330uF; PartId: 24518; Supplier 1: Digi-Key; Supplier Part Number 1: 493-12596-3-ND; ComponentLink1Description: Datasheet; ComponentLink1URL: http://nichicon-us.com/english/products/pdfs/e-uvk.pdf; ComponentLink2Description: Digi-Key Listing; ComponentLink2URL: https://www.digikey.com/product-detail/en/nichicon/UVK1V331MPD1TD/493-12596-3-ND/4328797; Tolerance: 20%; Voltage: 35V; Price: 0.1332; Device Package: Radial, Can, 10mm
footprint CAP AL TH D10 L5 H14.5
pins: 1, 2

## UVK1V332MHD
designator C?, comment 3300uF  (value not drawn)
CAP ALUM 3300UF 20% 35V RADIAL; Part Number: UVK1V332MHD; Manufacturer: Nichicon; TemperatureRange: -40C ~ 85C; Type: Polar; Ripple Current: 2.1A; Value: 3300uF; PartId: 27137; Supplier 1: Digi-Key; Supplier Part Number 1: 493-6065-ND; ComponentLink1Description: Datasheet; ComponentLink1URL: http://nichicon-us.com/english/products/pdfs/e-uvk.pdf; ComponentLink2Description: Digi-Key Listing; ComponentLink2URL: https://www.digikey.com/product-detail/en/nichicon/UVK1V332MHD/493-6065-ND/2539441; Tolerance: 20%; Voltage: 35V; Price: 1.79; Device Package: Radial, Can, 16mm
footprint CAP AL TH D16 L7.5 H33.5
pins: 1, 2

## UVK1V471MPD1TD
designator C?, comment 470uF  (value not drawn)
CAP ALUM 470UF 20% 35V RADIAL; Part Number: UVK1V471MPD1TD; Manufacturer: Nichicon; TemperatureRange: -40C ~ 85C; Type: Polar; Ripple Current: 650mA; Value: 470uF; PartId: 25013; Supplier 1: Digi-Key; Supplier Part Number 1: 493-12598-3-ND; ComponentLink1Description: Datasheet; ComponentLink1URL: http://nichicon-us.com/english/products/pdfs/e-uvk.pdf; ComponentLink2Description: Digi-Key Listing; ComponentLink2URL: https://www.digikey.com/product-detail/en/nichicon/UVK1V471MPD1TD/493-12598-3-ND/4328799; Tolerance: 20%; Voltage: 35V; Price: 0.1578; Device Package: Radial, Can, 10mm
footprint CAP AL TH D10 L5 H17.5
pins: 1, 2

## UVK2A101MPD
designator C?, comment 100uF  (value not drawn)
CAP ALUM 100UF 20% 100V RADIAL; Part Number: UVK2A101MPD; Manufacturer: Nichicon; TemperatureRange: -40C ~ 85C; Type: Polar; Ripple Current: 340mA; Value: 100uF; PartId: 25248; Supplier 1: Digi-Key; Supplier Part Number 1: UVK2A101MPD-ND; ComponentLink1Description: Datasheet; ComponentLink1URL: http://nichicon-us.com/english/products/pdfs/e-uvk.pdf; ComponentLink2Description: Digi-Key Listing; ComponentLink2URL: https://www.digikey.com/product-detail/en/nichicon/UVK2A101MPD/UVK2A101MPD-ND/2428052; Tolerance: 20%; Voltage: 100V; Price: 0.57; Device Package: Radial, Can, 10mm
footprint CAP AL TH D10 L5 H17.5
pins: 1, 2

## UVK2A101MPD1TD
designator C?, comment 100uF  (value not drawn)
CAP ALUM 100UF 20% 100V RADIAL; Part Number: UVK2A101MPD1TD; Manufacturer: Nichicon; TemperatureRange: -40C ~ 85C; Type: Polar; Ripple Current: 340mA; Value: 100uF; PartId: 25048; Supplier 1: Digi-Key; Supplier Part Number 1: 493-12603-3-ND; ComponentLink1Description: Datasheet; ComponentLink1URL: http://nichicon-us.com/english/products/pdfs/e-uvk.pdf; ComponentLink2Description: Digi-Key Listing; ComponentLink2URL: https://www.digikey.com/product-detail/en/nichicon/UVK2A101MPD1TD/493-12603-3-ND/4328804; Tolerance: 20%; Voltage: 100V; Price: 0.198; Device Package: Radial, Can, 10mm
footprint CAP AL TH D10 L5 H17.5
pins: 1, 2

## UVK2A221MHD
designator C?, comment 220uF  (value not drawn)
CAP ALUM 220UF 20% 100V RADIAL; Part Number: UVK2A221MHD; Manufacturer: Nichicon; TemperatureRange: -40C ~ 85C; Type: Polar; Ripple Current: 550mA; Value: 220uF; PartId: 23296; Supplier 1: Digi-Key; Supplier Part Number 1: 493-6067-ND; ComponentLink1Description: Datasheet; ComponentLink1URL: http://nichicon-us.com/english/products/pdfs/e-uvk.pdf; ComponentLink2Description: Digi-Key Listing; ComponentLink2URL: https://www.digikey.com/product-detail/en/nichicon/UVK2A221MHD/493-6067-ND/2539450; Tolerance: 20%; Voltage: 100V; Price: 0.8; Device Package: Radial, Can, 12.5mm
footprint CAP AL TH D12.5 L5 H22
pins: 1, 2

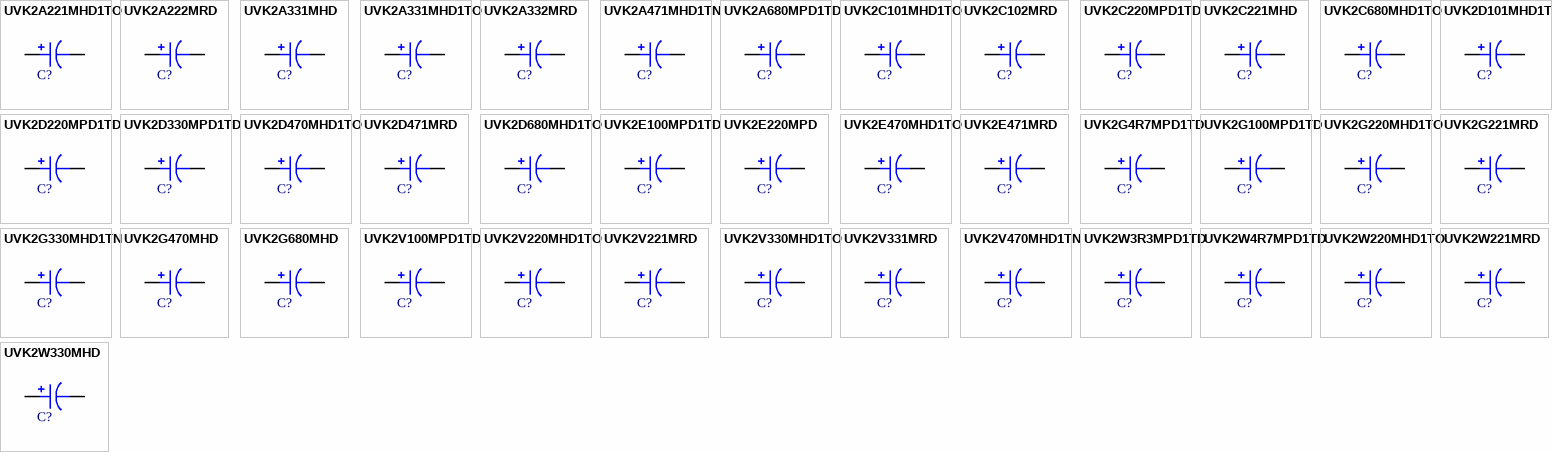
[diagram p103: symbols UVK2A221MHD1TO to UVK2W330MHD]

## UVK2A221MHD1TO
designator C?, comment 220uF  (value not drawn)
CAP ALUM 220UF 20% 100V RADIAL; Part Number: UVK2A221MHD1TO; Manufacturer: Nichicon; TemperatureRange: -40C ~ 85C; Type: Polar; Ripple Current: 550mA; Value: 220uF; PartId: 23158; Supplier 1: Digi-Key; Supplier Part Number 1: 493-12605-3-ND; ComponentLink1Description: Datasheet; ComponentLink1URL: http://nichicon-us.com/english/products/pdfs/e-uvk.pdf; ComponentLink2Description: Digi-Key Listing; ComponentLink2URL: https://www.digikey.com/product-detail/en/nichicon/UVK2A221MHD1TO/493-12605-3-ND/4328806; Tolerance: 20%; Voltage: 100V; Price: 0.3184; Device Package: Radial, Can, 12.5mm
footprint CAP AL TH D12.5 L5 H22
pins: 1, 2

## UVK2A222MRD
designator C?, comment 2200uF  (value not drawn)
CAP ALUM 2200UF 20% 100V RADIAL; Part Number: UVK2A222MRD; Manufacturer: Nichicon; TemperatureRange: -40C ~ 85C; Type: Polar; Ripple Current: 2.4A; Value: 2200uF; PartId: 27658; Supplier 1: Digi-Key; Supplier Part Number 1: 493-12419-ND; ComponentLink1Description: Datasheet; ComponentLink1URL: http://nichicon-us.com/english/products/pdfs/e-uvk.pdf; ComponentLink2Description: Digi-Key Listing; ComponentLink2URL: https://www.digikey.com/product-detail/en/nichicon/UVK2A222MRD/493-12419-ND/2539451; Tolerance: 20%; Voltage: 100V; Price: 4.52; Device Package: Radial, Can, 22mm
footprint CAP AL TH D22 L10 H53
pins: 1, 2

## UVK2A331MHD
designator C?, comment 330uF  (value not drawn)
CAP ALUM 330UF 20% 100V RADIAL; Part Number: UVK2A331MHD; Manufacturer: Nichicon; TemperatureRange: -40C ~ 85C; Type: Polar; Ripple Current: 760mA; Value: 330uF; PartId: 24093; Supplier 1: Digi-Key; Supplier Part Number 1: 493-14379-ND; ComponentLink1Description: Datasheet; ComponentLink1URL: http://nichicon-us.com/english/products/pdfs/e-uvk.pdf; ComponentLink2Description: Digi-Key Listing; ComponentLink2URL: https://www.digikey.com/product-detail/en/nichicon/UVK2A331MHD/493-14379-ND/2539454; Tolerance: 20%; Voltage: 100V; Price: 1.27; Device Package: Radial, Can, 12.5mm
footprint CAP AL TH D12.5 L5 H27
pins: 1, 2

## UVK2A331MHD1TO
designator C?, comment 330uF  (value not drawn)
CAP ALUM 330UF 20% 100V RADIAL; Part Number: UVK2A331MHD1TO; Manufacturer: Nichicon; TemperatureRange: -40C ~ 85C; Type: Polar; Ripple Current: 760mA; Value: 330uF; PartId: 24056; Supplier 1: Digi-Key; Supplier Part Number 1: 493-12608-1-ND; ComponentLink1Description: Datasheet; ComponentLink1URL: http://nichicon-us.com/english/products/pdfs/e-uvk.pdf; ComponentLink2Description: Digi-Key Listing; ComponentLink2URL: https://www.digikey.com/product-detail/en/nichicon/UVK2A331MHD1TO/493-12608-1-ND/4328689; Tolerance: 20%; Voltage: 100V; Price: 1.16; Device Package: Radial, Can, 12.5mm
footprint CAP AL TH D12.5 L5 H27
pins: 1, 2

## UVK2A332MRD
designator C?, comment 3300uF  (value not drawn)
CAP ALUM 3300UF 20% 100V RADIAL; Part Number: UVK2A332MRD; Manufacturer: Nichicon; TemperatureRange: -40C ~ 85C; Type: Polar; Ripple Current: 2.9A; Value: 3300uF; PartId: 27540; Supplier 1: Digi-Key; Supplier Part Number 1: 493-12420-ND; ComponentLink1Description: Datasheet; ComponentLink1URL: http://nichicon-us.com/english/products/pdfs/e-uvk.pdf; ComponentLink2Description: Digi-Key Listing; ComponentLink2URL: https://www.digikey.com/product-detail/en/nichicon/UVK2A332MRD/493-12420-ND/2539455; Tolerance: 20%; Voltage: 100V; Price: 6; Device Package: Radial, Can, 25mm
footprint CAP AL TH D25 L12.5 H52
pins: 1, 2

## UVK2A471MHD1TN
designator C?, comment 470uF  (value not drawn)
CAP ALUM 470UF 20% 100V RADIAL; Part Number: UVK2A471MHD1TN; Manufacturer: Nichicon; TemperatureRange: -40C ~ 85C; Type: Polar; Ripple Current: 1A; Value: 470uF; PartId: 26763; Supplier 1: Digi-Key; Supplier Part Number 1: 493-12611-3-ND; ComponentLink1Description: Datasheet; ComponentLink1URL: http://nichicon-us.com/english/products/pdfs/e-uvk.pdf; ComponentLink2Description: Digi-Key Listing; ComponentLink2URL: https://www.digikey.com/product-detail/en/nichicon/UVK2A471MHD1TN/493-12611-3-ND/4328812; Tolerance: 20%; Voltage: 100V; Price: 0.586; Device Package: Radial, Can, 16mm
footprint CAP AL TH D16 L7.5 H27
pins: 1, 2

## UVK2A680MPD1TD
designator C?, comment 68uF  (value not drawn)
CAP ALUM 68UF 20% 100V RADIAL; Part Number: UVK2A680MPD1TD; Manufacturer: Nichicon; TemperatureRange: -40C ~ 85C; Type: Polar; Ripple Current: 270mA; Value: 68uF; PartId: 24572; Supplier 1: Digi-Key; Supplier Part Number 1: 493-12613-3-ND; ComponentLink1Description: Datasheet; ComponentLink1URL: http://nichicon-us.com/english/products/pdfs/e-uvk.pdf; ComponentLink2Description: Digi-Key Listing; ComponentLink2URL: https://www.digikey.com/product-detail/en/nichicon/UVK2A680MPD1TD/493-12613-3-ND/4328814; Tolerance: 20%; Voltage: 100V; Price: 0.1568; Device Package: Radial, Can, 10mm
footprint CAP AL TH D10 L5 H14.5
pins: 1, 2

## UVK2C101MHD1TO
designator C?, comment 100uF  (value not drawn)
CAP ALUM 100UF 20% 160V RADIAL; Part Number: UVK2C101MHD1TO; Manufacturer: Nichicon; TemperatureRange: -40C ~ 85C; Type: Polar; Ripple Current: 430mA; Value: 100uF; PartId: 24096; Supplier 1: Digi-Key; Supplier Part Number 1: 493-12618-1-ND; ComponentLink1Description: Datasheet; ComponentLink1URL: http://nichicon-us.com/english/products/pdfs/e-uvk.pdf; ComponentLink2Description: Digi-Key Listing; ComponentLink2URL: https://www.digikey.com/product-detail/en/nichicon/UVK2C101MHD1TO/493-12618-1-ND/4328699; Tolerance: 20%; Voltage: 160V; Price: 1.28; Device Package: Radial, Can, 12.5mm
footprint CAP AL TH D12.5 L5 H27
pins: 1, 2

## UVK2C102MRD
designator C?, comment 1000uF  (value not drawn)
CAP ALUM 1000UF 20% 160V RADIAL; Part Number: UVK2C102MRD; Manufacturer: Nichicon; TemperatureRange: -40C ~ 85C; Type: Polar; Ripple Current: 1.9A; Value: 1000uF; PartId: 27531; Supplier 1: Digi-Key; Supplier Part Number 1: 493-12421-ND; ComponentLink1Description: Datasheet; ComponentLink1URL: http://nichicon-us.com/english/products/pdfs/e-uvk.pdf; ComponentLink2Description: Digi-Key Listing; ComponentLink2URL: https://www.digikey.com/product-detail/en/nichicon/UVK2C102MRD/493-12421-ND/2539466; Tolerance: 20%; Voltage: 160V; Price: 4.45; Device Package: Radial, Can, 25mm
footprint CAP AL TH D25 L12.5 H52
pins: 1, 2

## UVK2C220MPD1TD
designator C?, comment 22uF  (value not drawn)
CAP ALUM 22UF 20% 160V RADIAL; Part Number: UVK2C220MPD1TD; Manufacturer: Nichicon; TemperatureRange: -40C ~ 85C; Type: Polar; Ripple Current: 130mA; Value: 22uF; PartId: 24558; Supplier 1: Digi-Key; Supplier Part Number 1: 493-12619-3-ND; ComponentLink1Description: Datasheet; ComponentLink1URL: http://nichicon-us.com/english/products/pdfs/e-uvk.pdf; ComponentLink2Description: Digi-Key Listing; ComponentLink2URL: https://www.digikey.com/product-detail/en/nichicon/UVK2C220MPD1TD/493-12619-3-ND/4328820; Tolerance: 20%; Voltage: 160V; Price: 0.1524; Device Package: Radial, Can, 10mm
footprint CAP AL TH D10 L5 H14.5
pins: 1, 2